# EAGLE library part 74ACT573PC (library Fairchild_By_element14_Batch_1)
Octal Latch with 3-STATE Outputs
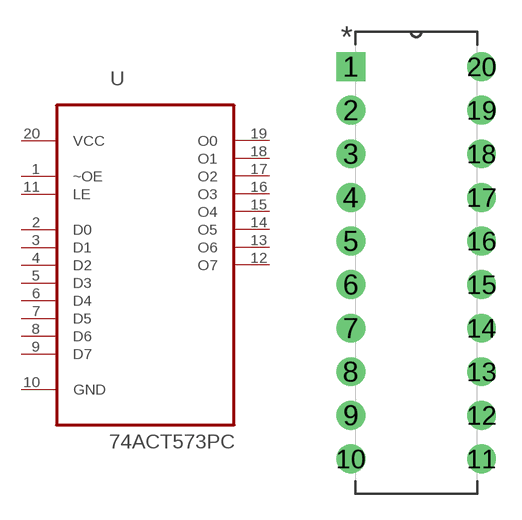
[diagram p49: symbol with the pads of DIP254P762X533-20; footprint DIP254P762X533-20]

Designator prefix U

## 74ACT573PC (MPN: 74ACT573PC; OC_FARNELL: 1014033; OC_NEWARK: -; PACKAGE: PDIP-20; SUPPLIER: FAIRCHILD SEMICONDUCTOR)  [DIP254P762X533-20]
1  ~OE  in
2  D0  in
3  D1  in
4  D2  in
5  D3  in
6  D4  in
7  D5  in
8  D6  in
9  D7  in
10  GND  pas
11  LE  in
12  O7  out
13  O6  out
14  O5  out
15  O4  out
16  O3  out
17  O2  out
18  O1  out
19  O0  out
20  VCC  pwr

## Footprint DIP254P762X533-20 (pad centres in mm)
drill 1.118 square: 1 -7.62,22.86
drill 1.118: 2 -7.62,20.32; 3 -7.62,17.78; 4 -7.62,15.24; 5 -7.62,12.7; 6 -7.62,10.16; 7 -7.62,7.62; 8 -7.62,5.08; 9 -7.62,2.54; 10 -7.62,0; 11 0,0; 12 0,2.54; 13 0,5.08; 14 0,7.62; 15 0,10.16; 16 0,12.7; 17 0,15.24; 18 0,17.78; 19 0,20.32; 20 0,22.86